# Altium schematic symbol library AD8212.Schlib: 1 symbol
Pins are listed as number, name and electrical type; pins without a type are passive.

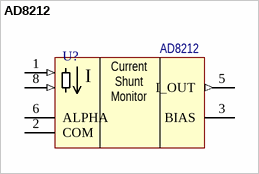
[diagram p0: symbol AD8212]

## AD8212
designator U?
Current Shunt Monitor; Назначение: Токовый датчик; Потребление, Вт: 0,01; Наименование: AD8212
footprint MSOP-8
pins: 1 V+ (in), 2 COM (oc), 3 BIAS (oc), 5 I_OUT (out), 6 ALPHA (oc), 8 V_SENSE (in)
text: I; Current / Shunt / Monitor